# EAGLE library part BNO055 (library BNO055)
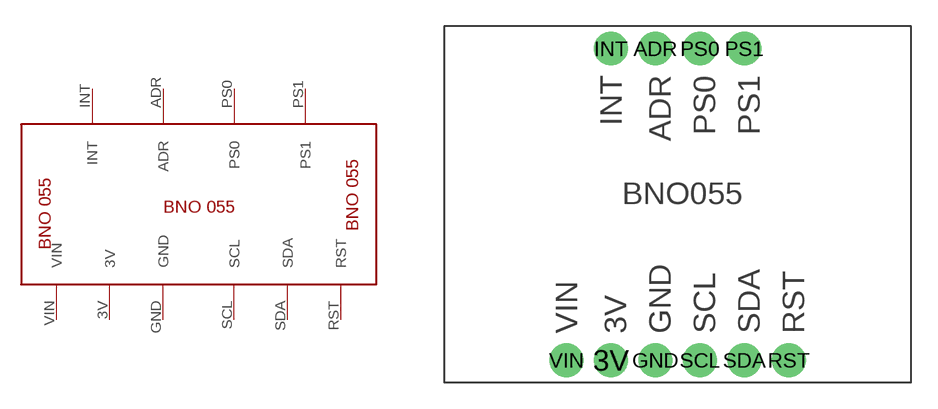
[diagram p0: symbol with the pads of BNO055; footprint BNO055]

Designator prefix -

## BNO055  [BNO055]
3V  3V
ADR  ADR
GND  GND
INT  INT
PS0  PS0
PS1  PS1
RST  RST
SCL  SCL
SDA  SDA
VIN  VIN

## Footprint BNO055 (pad centres in mm)
drill 1 pad 1.93: 3V 9.525,1.27; ADR 12.065,19.05; GND 12.065,1.27; INT 9.525,19.05; PS0 14.605,19.05; PS1 17.145,19.05; RST 19.685,1.27; SCL 14.605,1.27; SDA 17.145,1.27; VIN 6.985,1.27